# Altium footprint library WiDSO.PcbLib: 32 footprints (part 1 of 2)
Each footprint in its own frame and in the unit in brackets; x right, y up, seen from the top. Pads: shape width x height; smd on the part's side, far side on the other; paste and mask are expansions set on the pad; w line width, h text height; cw(c..) or ccw(c..) is an arc to the next point about the centre after c.
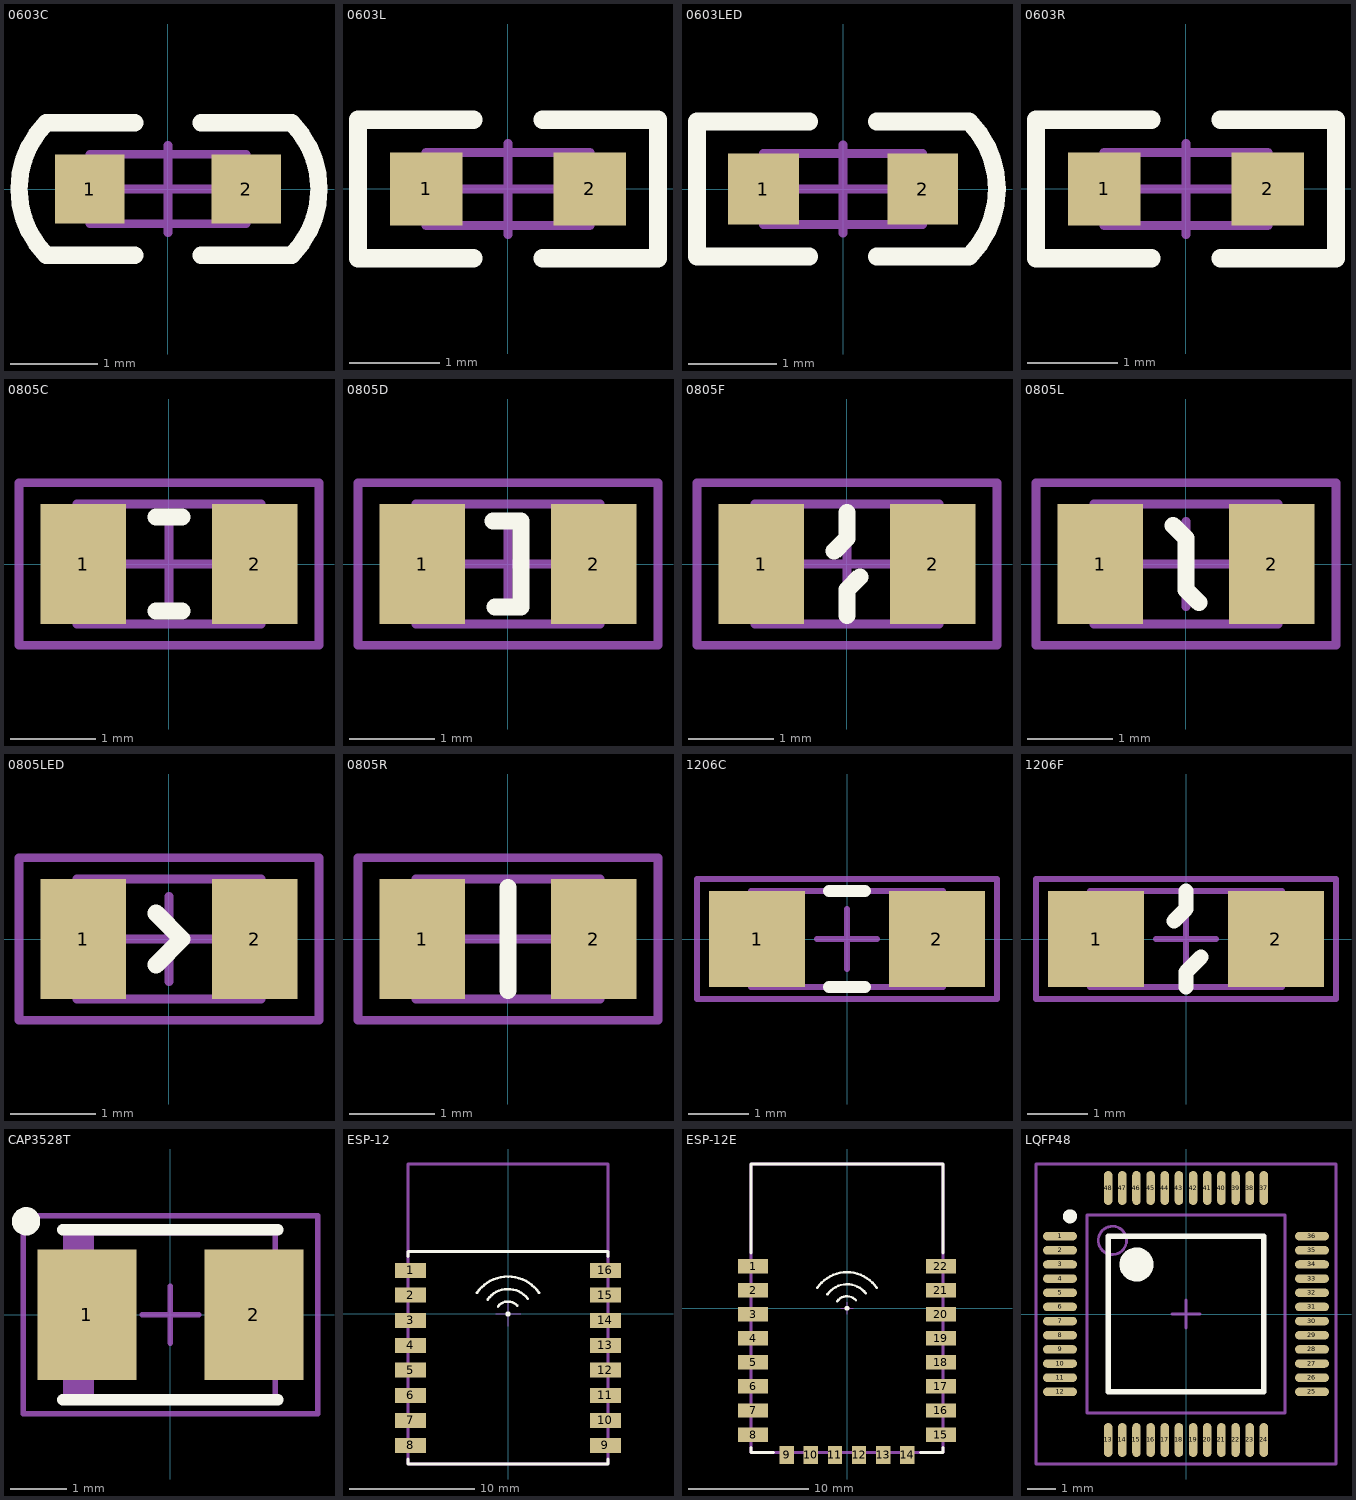
[diagram p0: the footprints below, top view; thin cyan lines are the x and y axes]

## 0603C [mm] "贴片电容"
pads (2):
  rect 0.8x0.8 smd: 1(-0.9,0) 2(0.9,0)
Top Overlay:
  lines w0.2: -0.381,-0.762 -1.4,-0.762 cw(c-0.638,0) -1.4,0.762 -0.381,0.762 ; 0.381,-0.762 1.424,-0.762 ccw(c0.662,0) 1.424,0.762 0.381,0.762
Mechanical 13:
  lines w0.1: -0.9,-0.4 -0.9,0.4 0.9,0.4 0.9,-0.4 -0.9,-0.4
Mechanical 15:
  lines w0.1: -0.5,0 0.5,0 ; 0,-0.5 0,0.5
3D body: height 0.8, standoff 0, extent -0.9,-0.4 0.9,0.4

## 0603L [mm] "贴片电感"
pads (2):
  rect 0.8x0.8 smd: 1(-0.9,0) 2(0.9,0)
Top Overlay:
  lines w0.2: -0.381,-0.762 -1.651,-0.762 -1.651,0.762 -0.381,0.762 ; 0.381,-0.762 1.651,-0.762 1.651,0.762 0.381,0.762
Mechanical 13:
  lines w0.1: -0.9,-0.4 -0.9,0.4 0.9,0.4 0.9,-0.4 -0.9,-0.4
Mechanical 15:
  lines w0.1: -0.5,0 0.5,0 ; 0,-0.5 0,0.5
3D body: height 0.8, standoff 0, extent -0.9,-0.4 0.9,0.4

## 0603LED [mm] "贴片LED"
pads (2):
  rect 0.8x0.8 smd: 1(-0.9,0) 2(0.9,0)
Top Overlay:
  lines w0.2: -0.381,-0.762 -1.651,-0.762 -1.651,0.762 -0.381,0.762 ; 0.381,-0.762 1.424,-0.762 ccw(c0.662,0) 1.424,0.762 0.381,0.762
Mechanical 13:
  lines w0.1: -0.9,-0.4 -0.9,0.4 0.9,0.4 0.9,-0.4 -0.9,-0.4
Mechanical 15:
  lines w0.1: -0.5,0 0.5,0 ; 0,-0.5 0,0.5
3D body: height 0.5, standoff 0, extent -0.9,-0.4 0.9,0.4

## 0603R [mm] "贴片电阻"
pads (2):
  rect 0.8x0.8 smd: 1(-0.9,0) 2(0.9,0)
Top Overlay:
  lines w0.2: -0.381,-0.762 -1.651,-0.762 -1.651,0.762 -0.381,0.762 ; 0.381,-0.762 1.651,-0.762 1.651,0.762 0.381,0.762
Mechanical 13:
  lines w0.1: -0.9,-0.4 0.9,-0.4 0.9,0.4 -0.9,0.4 -0.9,-0.4
Mechanical 15:
  lines w0.1: -0.5,0 0.5,0 ; 0,-0.5 0,0.5
3D body: height 0.4, standoff 0, extent -0.9,-0.4 0.9,0.4
3D body: height 0.45, standoff 0.4, extent -0.65,-0.35 0.65,0.35

## 0805C [mm] "贴片电容"
pads (2):
  rect 1x1.4 smd: 1(-1,0) 2(1,0)
Top Overlay:
  lines w0.2: -0.15,-0.55 0.15,-0.55 ; -0.15,0.55 0.15,0.55
Mechanical 13:
  lines w0.1: -1.075,-0.7 1.075,-0.7 1.075,0.7 -1.075,0.7 -1.075,-0.7
Mechanical 15:
  lines w0.1: -0.5,0 0.5,0 ; 0,-0.5 0,0.5 ; -1.75,-0.95 1.75,-0.95 1.75,0.95 -1.75,0.95 -1.75,-0.95
3D body: height 0.8, standoff 0, extent -1.075,-0.7 1.075,0.7

## 0805D [mm] "贴片二极管(SOD-323)"
pads (2):
  rect 1x1.4 smd: 1(-1,0) 2(1,0)
Top Overlay:
  lines w0.2: -0.175,0.5 0.15,0.5 0.15,-0.5 -0.15,-0.5
Mechanical 13:
  lines w0.1: -1.075,-0.7 1.075,-0.7 1.075,0.7 -1.075,0.7 -1.075,-0.7
Mechanical 15:
  lines w0.1: -0.5,0 0.5,0 ; 0,-0.5 0,0.5 ; -1.75,-0.95 1.75,-0.95 1.75,0.95 -1.75,0.95 -1.75,-0.95
3D body: height 1, standoff 0, extent -1.075,-0.7 1.075,0.7

## 0805F [mm] "贴片自恢复保险丝"
pads (2):
  rect 1x1.4 smd: 1(-1,0) 2(1,0)
Top Overlay:
  lines w0.2: -0.15,0.15 0,0.3 0,0.6 ; 0,-0.6 0,-0.3 0.15,-0.15
Mechanical 13:
  lines w0.1: -1.075,-0.7 1.075,-0.7 1.075,0.7 -1.075,0.7 -1.075,-0.7
Mechanical 15:
  lines w0.1: -0.5,0 0.5,0 ; 0,-0.5 0,0.5 ; -1.75,-0.95 1.75,-0.95 1.75,0.95 -1.75,0.95 -1.75,-0.95
3D body: height 0.5, standoff 0, extent -1.075,-0.7 1.075,0.7

## 0805L [mm] "贴片电感"
pads (2):
  rect 1x1.4 smd: 1(-1,0) 2(1,0)
Top Overlay:
  lines w0.2: -0.15,0.45 0,0.3 0,-0.3 0.15,-0.45
Mechanical 13:
  lines w0.1: -1.075,-0.7 -1.075,0.7 1.075,0.7 1.075,-0.7 -1.075,-0.7
Mechanical 15:
  lines w0.1: -0.5,0 0.5,0 ; 0,-0.5 0,0.5 ; -1.75,-0.95 -1.75,0.95 1.75,0.95 1.75,-0.95 -1.75,-0.95
3D body: height 1, standoff 0, extent -1.075,-0.7 1.075,0.7

## 0805LED [mm] "贴片LED"
pads (2):
  rect 1x1.4 smd: 1(-1,0) 2(1,0)
Top Overlay:
  lines w0.2: -0.15,-0.3 0.15,0 -0.15,0.3
Mechanical 13:
  lines w0.1: -1.075,-0.7 1.075,-0.7 1.075,0.7 -1.075,0.7 -1.075,-0.7
Mechanical 15:
  lines w0.1: -0.5,0 0.5,0 ; 0,-0.5 0,0.5 ; -1.75,-0.95 1.75,-0.95 1.75,0.95 -1.75,0.95 -1.75,-0.95
3D body: height 1, standoff 0, extent -1.075,-0.7 1.075,0.7

## 0805R [mm] "贴片电阻"
pads (2):
  rect 1x1.4 smd: 1(-1,0) 2(1,0)
Top Overlay:
  lines w0.2: 0,-0.6 0,0.6
Mechanical 13:
  lines w0.1: -1.075,-0.7 1.075,-0.7 1.075,0.7 -1.075,0.7 -1.075,-0.7
Mechanical 15:
  lines w0.1: -0.5,0 0.5,0 ; 0,-0.5 0,0.5 ; -1.75,-0.95 1.75,-0.95 1.75,0.95 -1.75,0.95 -1.75,-0.95
3D body: height 0.55, standoff 0.5, extent -0.75,-0.625 0.75,0.625
3D body: height 0.5, standoff 0, extent -1.075,-0.7 1.075,0.7

## 1206C [mm] "Chip Capacitor; Body 3.2 x 1.6 mm (LxW typ)"
height 1.35
pads (2):
  rect 1.6x1.6 smd: 1(-1.5,0) 2(1.5,0)
Top Overlay:
  lines w0.2: -0.3,-0.8 0.3,-0.8 ; -0.3,0.8 0.3,0.8
Mechanical 13:
  lines w0.1: -1.6,-0.8 1.6,-0.8 1.6,0.8 -1.6,0.8 -1.6,-0.8
Mechanical 15:
  lines w0.1: -0.5,0 0.5,0 ; 0,-0.5 0,0.5 ; -2.5,-1 2.5,-1 2.5,1 -2.5,1 -2.5,-1
3D body: height 0.8, standoff 0, extent -1.6,-0.8 1.6,0.8

## 1206F [mm] "Chip Fuse; Body 3.2 x 1.6 mm (LxW typ)"
height 1.35
pads (2):
  rect 1.6x1.6 smd: 1(-1.5,0) 2(1.5,0)
Top Overlay:
  lines w0.254: -0.2,0.3 0,0.5 0,0.8 ; 0,-0.8 0,-0.55 0.25,-0.3
Mechanical 13:
  lines w0.1: -1.6,-0.8 -1.6,0.8 1.6,0.8 1.6,-0.8 -1.6,-0.8
Mechanical 15:
  lines w0.1: -0.5,0 0.5,0 ; 0,-0.5 0,0.5 ; -2.5,-1 -2.5,1 2.5,1 2.5,-1 -2.5,-1
3D body: height 0.8, standoff 0, extent -1.6,-0.8 1.6,0.8

## CAP3528T [mm] "Capacitor Tantalum Leadless Type B, 3.5x2.8mm"
height 2
pads (2):
  rect 1.75x2.3 smd: 1(-1.475,0) 2(1.475,0)
Top Overlay:
  circle w0.25: c-2.55,1.65 r0.125
  lines w0.2: -1.9,-1.5 1.9,-1.5 ; -1.9,1.5 1.9,1.5
Mechanical 13:
  rectangle: -1.85,-1.45 -1.352,1.45
  lines w0.1: -1.85,-1.45 1.85,-1.45 1.85,1.45 -1.85,1.45 -1.85,-1.45
Mechanical 15:
  lines w0.1: -0.5,0 0.5,0 ; 0,-0.5 0,0.5 ; -2.6,-1.75 2.6,-1.75 2.6,1.75 -2.6,1.75 -2.6,-1.75
3D body: height 2, standoff 0, extent -1.85,-1.45 1.85,1.45
3D body: height 2.01, standoff 2, extent -1.2,-1.4 -0.9,1.4

## ESP-12 [mm] "串口Wifi模块"
pads (16):
  rect 2.5x1.2 smd: 1(-7.8,3.5) 2(-7.8,1.5) 3(-7.8,-0.5) 4(-7.8,-2.5) 5(-7.8,-4.5) 6(-7.8,-6.5) 7(-7.8,-8.5) 8(-7.8,-10.5) 9(7.8,-10.5) 10(7.8,-8.5) 11(7.8,-6.5) 12(7.8,-4.5) 13(7.8,-2.5) 14(7.8,-0.5) 15(7.8,1.5) 16(7.8,3.5)
Top Overlay:
  circle w0.2: c0,0 r0.1
  lines w0.2: -2.481,1.687 cw(c0,0) 2.481,1.687 ; -1.634,1.153 cw(c0,0) 1.579,1.228 ; -0.8,0.6 cw(c0,0) 0.747,0.664
  lines w0.254: -8,-11.6 -8,-12 8,-12 8,-11.6 ; -8,4.6 -8,5 8,5 8,4.6
Mechanical 13:
  lines w0.254: -8,-12 8,-12 8,12 -8,12 -8,-12
Mechanical 15:
  lines w0.1: -8,5 8,5 ; -1,0 1,0 ; 0,-1 0,1
3D body: height 1, standoff 0, extent -8,-12 8,12
3D body: height 3.5, standoff 1, extent -6,-11 6,4.5

## ESP-12E [mm] "串口Wifi模块"
pads (22):
  rect 2.5x1.2 smd: 1(-7.8,3.5) 2(-7.8,1.5) 3(-7.8,-0.5) 4(-7.8,-2.5) 5(-7.8,-4.5) 6(-7.8,-6.5) 7(-7.8,-8.5) 8(-7.8,-10.5) 15(7.8,-10.5) 16(7.8,-8.5) 17(7.8,-6.5) 18(7.8,-4.5) 19(7.8,-2.5) 20(7.8,-0.5) 21(7.8,1.5) 22(7.8,3.5)
  rect 1.2x1.5 smd: 9(-5,-12.2) 10(-3,-12.2) 11(-1,-12.2) 12(1,-12.2) 13(3,-12.2) 14(5,-12.2)
Top Overlay:
  circle w0.2: c0,0 r0.1
  lines w0.2: -2.481,1.687 cw(c0,0) 2.481,1.687 ; -1.634,1.153 cw(c0,0) 1.579,1.228 ; -0.8,0.6 cw(c0,0) 0.747,0.664
  lines w0.254: -8,-11.6 -8,-12 -6.1,-12 ; -8,4.6 -8,12 8,12 8,4.6 ; 6.1,-12 8,-12 8,-11.6
Mechanical 13:
  lines w0.254: -8,-12 8,-12 8,12 -8,12 -8,-12
Mechanical 15:
  lines w0.1: -0.5,0 0.5,0 ; 0,-0.5 0,0.5
3D body: height 1, standoff 0, extent -8,-12 8,12
3D body: height 3.5, standoff 1, extent -6,-11 6,5

## LQFP48 [mm] "Thin QFP, 48-Leads, Body 7x7mm, Pitch 0.5mm"
height 1.6
pads (48):
  oval 1.2x0.3 smd: 1(-4.45,2.75) 2(-4.45,2.25) 3(-4.45,1.75) 4(-4.45,1.25) 5(-4.45,0.75) 6(-4.45,0.25) 7(-4.45,-0.25) 8(-4.45,-0.75) 9(-4.45,-1.25) 10(-4.45,-1.75) 11(-4.45,-2.25) 12(-4.45,-2.75) 25(4.45,-2.75) 26(4.45,-2.25) 27(4.45,-1.75) 28(4.45,-1.25) 29(4.45,-0.75) 30(4.45,-0.25) 31(4.45,0.25) 32(4.45,0.75) 33(4.45,1.25) 34(4.45,1.75) 35(4.45,2.25) 36(4.45,2.75)
  oval 0.3x1.2 smd: 13(-2.75,-4.45) 14(-2.25,-4.45) 15(-1.75,-4.45) 16(-1.25,-4.45) 17(-0.75,-4.45) 18(-0.25,-4.45) 19(0.25,-4.45) 20(0.75,-4.45) 21(1.25,-4.45) 22(1.75,-4.45) 23(2.25,-4.45) 24(2.75,-4.45) 37(2.75,4.45) 38(2.25,4.45) 39(1.75,4.45) 40(1.25,4.45) 41(0.75,4.45) 42(0.25,4.45) 43(-0.25,4.45) 44(-0.75,4.45) 45(-1.25,4.45) 46(-1.75,4.45) 47(-2.25,4.45) 48(-2.75,4.45)
Top Overlay:
  circle w0.6: c-1.75,1.75 r0.3
  circle w0.25: c-4.1,3.45 r0.125
  lines w0.2: -2.75,-2.75 2.75,-2.75 2.75,2.75 -2.75,2.75 -2.75,-2.75
Mechanical 13:
  circle w0.1: c-2.6,2.6 r0.5
  lines w0.1: -3.5,-3.5 3.5,-3.5 3.5,3.5 -3.5,3.5 -3.5,-3.5
Mechanical 15:
  lines w0.1: -0.5,0 0.5,0 ; 0,-0.5 0,0.5 ; -5.3,-5.3 5.3,-5.3 5.3,5.3 -5.3,5.3 -5.3,-5.3
3D body: height 1.6, standoff 0, extent -3.5,-3.5 3.5,3.5